# EAGLE library part MCP9808T-E/MC (library GROUND-STATION-POWER-BOARD)
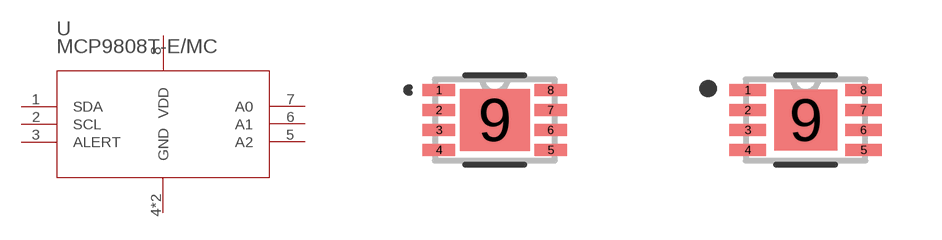
[diagram p8: symbol with the pads of DFN8_2X3MC; footprints DFN8_2X3MC, DFN8_2X3MC-M]

Designator prefix U

## MCP9808T-E/MC (MANUFACTURER_PART_NUMBER: MCP9808TEMC; VENDOR: Microchip)  [DFN8_2X3MC]
1  SDA  pas
2  SCL  pas
3  ALERT  out
4  GND  pwr
5  A2  pas
6  A1  pas
7  A0  pas
8  VDD  pwr
9  GND  pwr

## MCP9808T-E/MCDFN8_2X3MC-M (MANUFACTURER_PART_NUMBER: MCP9808TEMC; VENDOR: Microchip)  [DFN8_2X3MC-M]
Pads as for DFN8_2X3MC

## MCP9808T-E/MCDFN8_2X3MC-L (MANUFACTURER_PART_NUMBER: MCP9808TEMC; VENDOR: Microchip)  [DFN8_2X3MC-L]
Pads as for DFN8_2X3MC

## Footprint DFN8_2X3MC (pad centres in mm)
smd 0.813 x 0.305: 1 -1.397,0.75; 2 -1.397,0.25; 3 -1.397,-0.25; 4 -1.397,-0.75; 5 1.397,-0.75; 6 1.397,-0.25; 7 1.397,0.25; 8 1.397,0.75
smd 1.753 x 1.549: 9 0,0

## Footprint DFN8_2X3MC-M (pad centres in mm)
smd 0.914 x 0.305: 1 -1.448,0.75; 2 -1.448,0.25; 3 -1.448,-0.25; 4 -1.448,-0.75; 5 1.448,-0.75; 6 1.448,-0.25; 7 1.448,0.25; 8 1.448,0.75
smd 1.575 x 1.524: 9 0,0

## Footprint DFN8_2X3MC-L (pad centres in mm)
smd 0.711 x 0.305: 1 -1.346,0.75; 2 -1.346,0.25; 3 -1.346,-0.25; 4 -1.346,-0.75; 5 1.346,-0.75; 6 1.346,-0.25; 7 1.346,0.25; 8 1.346,0.75
smd 1.753 x 1.549: 9 0,0